# EAGLE library part NODEMCU_DEVKIT (library NodeMCU_devkit)
NodeMCU LUA Devkit Version 0.1 Type 30x57mm with CH340G serial adapter Design by Giovanni Bernardo www.settorezero.com
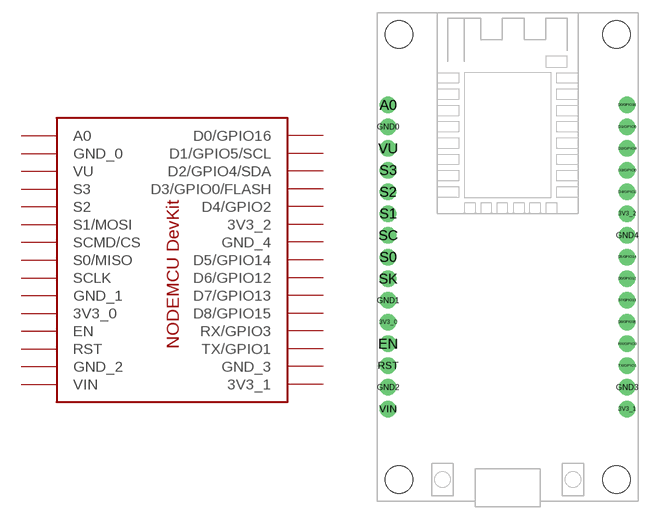
[diagram p0: symbol with the pads of NODEMCU_DEVKIT; footprint NODEMCU_DEVKIT]

Designator prefix -

## NODEMCU_DEVKIT  [NODEMCU_DEVKIT]
3V3_0  3V3_0  pwr
3V3_1  3V3_1  pwr
3V3_2  3V3_2  pwr
A0  A0
D0/GPIO16  D0/GPIO16
D1/GPIO5  D1/GPIO5/SCL
D2/GPIO4  D2/GPIO4/SDA
D3/GPIO0  D3/GPIO0/FLASH
D4/GPIO2  D4/GPIO2
D5/GPIO14  D5/GPIO14
D6/GPIO12  D6/GPIO12
D7/GPIO13  D7/GPIO13
D8/GPIO15  D8/GPIO15
EN  EN
GND0  GND_0  pwr
GND1  GND_1  pwr
GND2  GND_2  pwr
GND3  GND_3  pwr
GND4  GND_4  pwr
RST  RST
RX/GPIO3  RX/GPIO3
S0  S0/MISO
S1  S1/MOSI
S2  S2
S3  S3
SC  SCLK
SK  SCMD/CS
TX/GPIO1  TX/GPIO1
VIN  VIN  pwr
VU  VU

## Footprint NODEMCU_DEVKIT (pad centres in mm)
NodeMCU LUA Devkit Version 0.1 Type 30x57mm with CH340G serial adapter
drill 0.8 pad 1.93: 3V3_0 1.27,-36.195; 3V3_1 29.21,-46.355; 3V3_2 29.21,-23.495; A0 1.27,-10.795; D0/GPIO16 29.21,-10.795; D1/GPIO5 29.21,-13.335; D2/GPIO4 29.21,-15.875; D3/GPIO0 29.21,-18.415; D4/GPIO2 29.21,-20.955; D5/GPIO14 29.21,-28.575; D6/GPIO12 29.21,-31.115; D7/GPIO13 29.21,-33.655; D8/GPIO15 29.21,-36.195; EN 1.27,-38.735; GND0 1.27,-13.335; GND1 1.27,-33.655; GND2 1.27,-43.815; GND3 29.21,-43.815; GND4 29.21,-26.035; RST 1.27,-41.275; RX/GPIO3 29.21,-38.735; S0 1.27,-28.575; S1 1.27,-23.495; S2 1.27,-20.955; S3 1.27,-18.415; SC 1.27,-26.035; SK 1.27,-31.115; TX/GPIO1 29.21,-41.275; VIN 1.27,-46.355; VU 1.27,-15.875
hole 3.2 at 2.54,-2.54
hole 3.2 at 27.94,-2.54
hole 3.2 at 27.94,-54.61
hole 3.2 at 2.54,-54.61